# Altium schematic symbol library Microchip.SchLib: 3 symbols
Pins are listed as number, name and electrical type; pins without a type are passive.

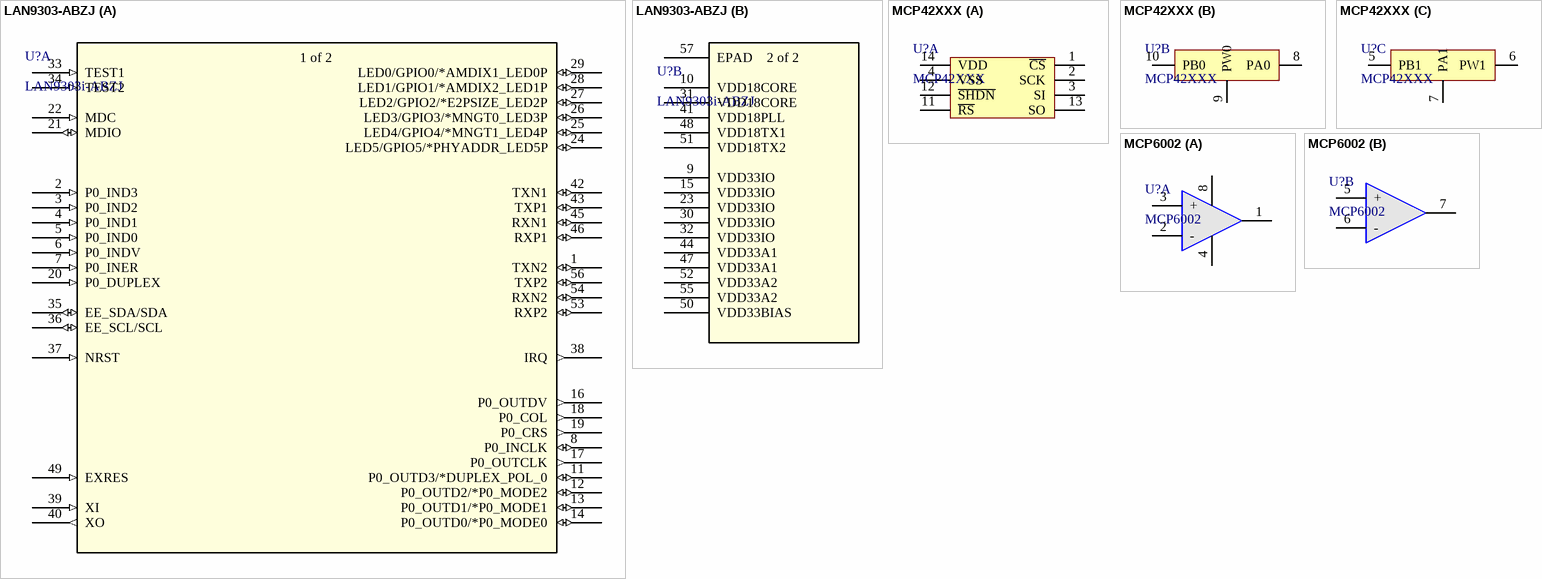
[diagram p0: symbols LAN9303-ABZJ to MCP6002]

## LAN9303-ABZJ
designator U?, comment LAN9303i-ABZJ
Small Form Factor Three Port 10/100 Managed Ethernet Switch with Single MII/RMII/Turbo MII; Mfr_Name: Microchip; Manufacturer_Part_Number: LAN9303-ABZJ; Revised By: Z_xiao; Copyright: Copyright (C) 2022 Ultra Librarian. All rights reserved.; RefDes: RefDes; Type: DEV; ComponentLink1Description: Datasheet; ComponentLink1URL: https://ww1.microchip.com/downloads/en/DeviceDoc/9303db.pdf
footprint QFN56_8X8MC_MCH
footprint QFN56_8X8MC_MCH-L
footprint QFN56_8X8MC_MCH-M
part A pins: 1 TXN2 (io), 2 P0_IND3 (in), 3 P0_IND2 (in), 4 P0_IND1 (in), 5 P0_IND0 (in), 6 P0_INDV (in), 7 P0_INER (in), 8 P0_INCLK (io), 11 P0_OUTD3/*DUPLEX_POL_0 (io), 12 P0_OUTD2/*P0_MODE2 (io), 13 P0_OUTD1/*P0_MODE1 (io), 14 P0_OUTD0/*P0_MODE0 (io), 16 P0_OUTDV (out), 17 P0_OUTCLK (out), 18 P0_COL (out), 19 P0_CRS (out), 20 P0_DUPLEX (in), 21 MDIO (io), 22 MDC (in), 24 LED5/GPIO5/*PHYADDR_LED5P (io), 25 LED4/GPIO4/*MNGT1_LED4P (io), 26 LED3/GPIO3/*MNGT0_LED3P (io), 27 LED2/GPIO2/*E2PSIZE_LED2P (io), 28 LED1/GPIO1/*AMDIX2_LED1P (io), 29 LED0/GPIO0/*AMDIX1_LED0P (io), 33 TEST1 (in), 34 TEST2 (in), 35 EE_SDA/SDA (io), 36 EE_SCL/SCL (io), 37 NRST (in), 38 IRQ (out), 39 XI (in), 40 XO (out), 42 TXN1 (io), 43 TXP1 (io), 45 RXN1 (io), 46 RXP1 (io), 49 EXRES (in), 53 RXP2 (io), 54 RXN2 (io), 56 TXP2 (io)
part B pins: 9 VDD33IO (power), 10 VDD18CORE (power), 15 VDD33IO (power), 23 VDD33IO (power), 30 VDD33IO (power), 31 VDD18CORE (power), 32 VDD33IO (power), 41 VDD18PLL (power), 44 VDD33A1 (power), 47 VDD33A1 (power), 48 VDD18TX1 (power), 50 VDD33BIAS (power), 51 VDD18TX2 (power), 52 VDD33A2 (power), 55 VDD33A2 (power), 57 EPAD
part A text: 1 of 2
part B text: 2 of 2

## MCP42XXX
designator U?
Single/Dual Digital Potentiometer with SPI™ Interface
footprint SOP14_L (8.7*6.2*1.8mm（长宽高）)
footprint SOP14_M (8.7*6.2*1.8mm（长宽高）)
footprint SOP14_N (8.7*6.2*1.8mm（长宽高）)
part A pins: 1 ~{CS}, 2 SCK, 3 SI, 4 VSS, 11 ~{RS}, 12 ~{SHDN}, 13 SO, 14 VDD
part B pins: 8 PA0, 9 PW0, 10 PB0
part C pins: 5 PB1, 6 PW1, 7 PA1

## MCP6002
designator U?
1 MHz Bandwidth Low Power Op Amp
footprint SOP8_L (5*6*1.8mm（长宽高）)
footprint SOP8_M (5*6*1.8mm（长宽高）)
footprint SOP8_N (5*6*1.8mm（长宽高）)
part A pins: 1 OUT1, 2 -, 3 +, 4 V- (power), 8 V+ (power)
part B pins: 5 +, 6 -, 7 OUT1